# Altium schematic symbol library Library.SchLib: 31 symbols
Pins are listed as number, name and electrical type; pins without a type are passive.

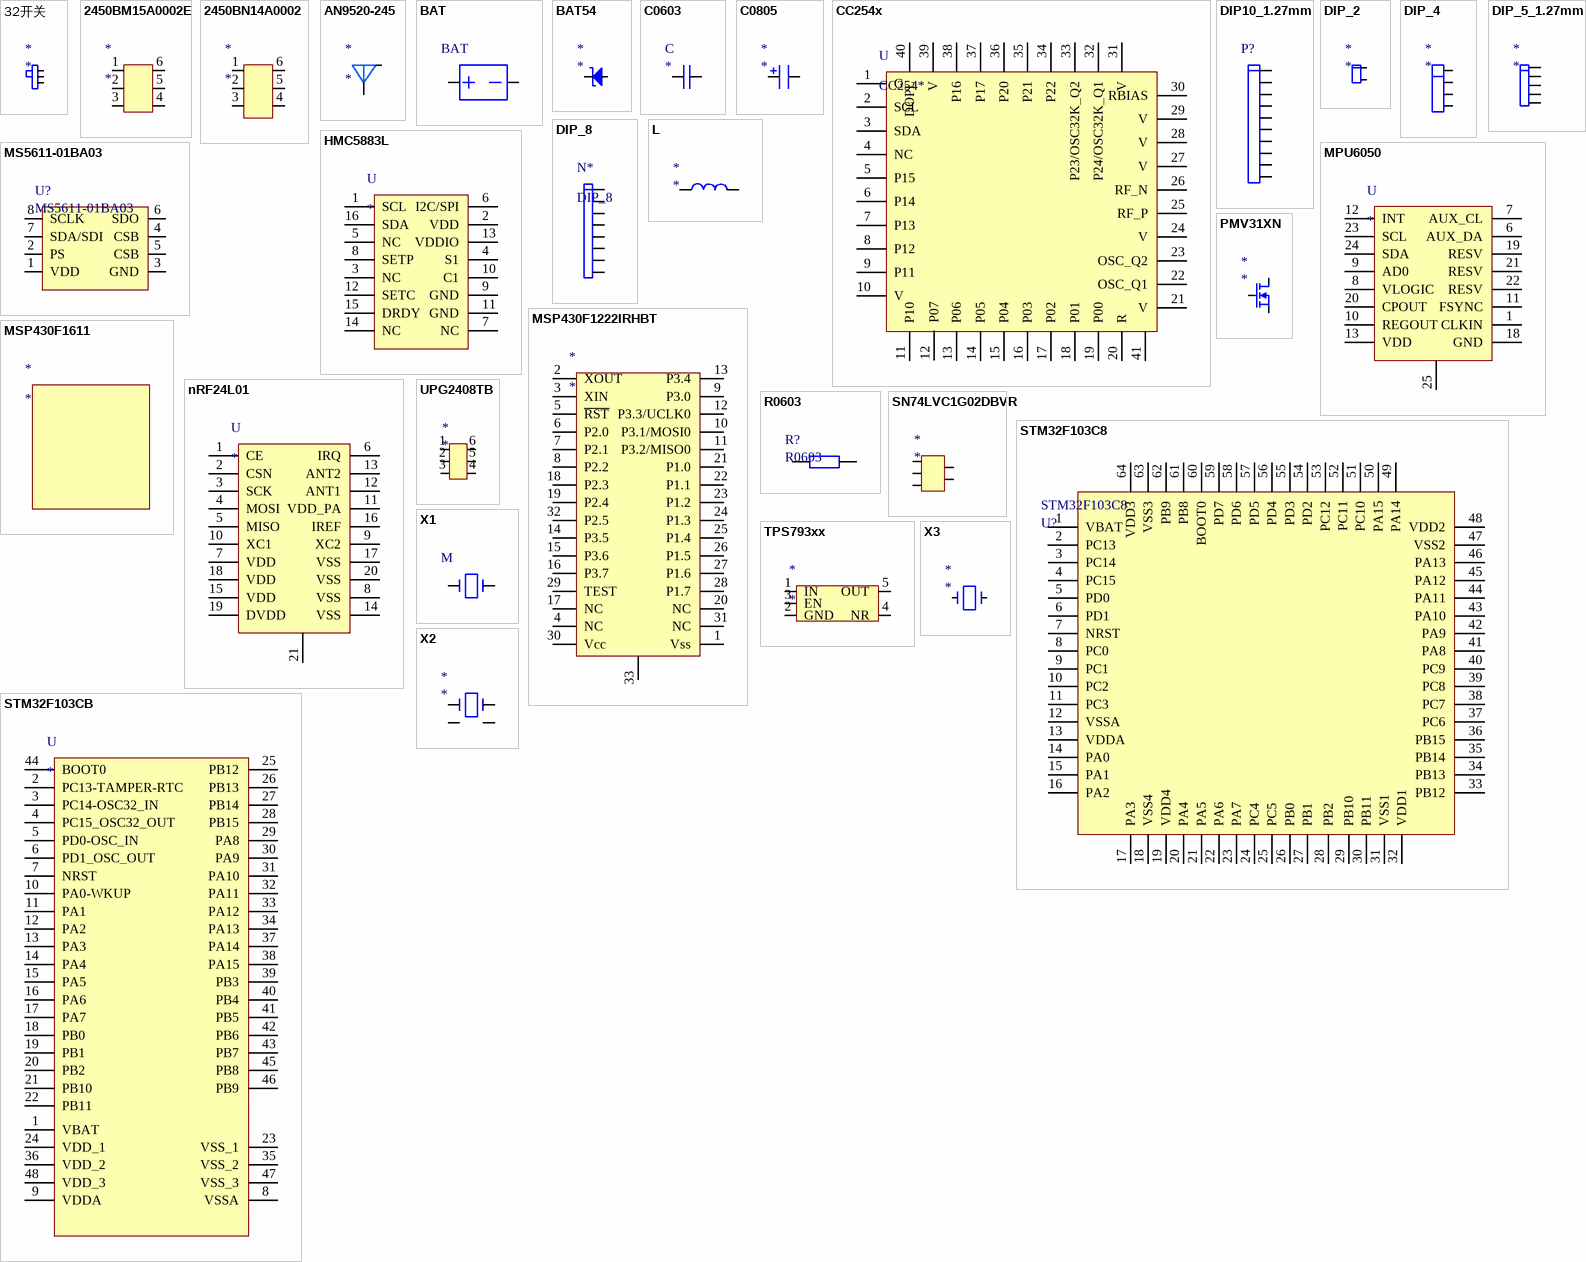
[diagram p0: symbols 32开关 to X3]

## 32开关
designator *
footprint 32k
pins: 1, 2, 3

## 2450BM15A0002E
designator *
CC2541
footprint 2450BM15A0002
pins: 1, 2, 3, 4, 5, 6

## 2450BN14A0002
designator *
nRF24L01
footprint 2450BM14A0002 (Chip Array, Flat, 6-Leads, Pitch 0.50mm,  Body 1.60x0.80mm,  IPC Medium Density)
pins: 1, 2, 3, 4, 5, 6

## AN9520-245
designator *
antenna
footprint AN9520-245 (Chip Capacitor, 2-Leads, Body 9.50x2.10mm, IPC Medium Density)
pins: 1, 2

## BAT
designator BAT  (value not drawn)
footprint XH254
pins: 1, 2

## BAT54
designator *
footprint BAT54 (SOT23, 3-Leads, Body 2.95x2.48mm, Pitch 0.95mm, IPC Medium Density)
pins: 1, 3

## C0603
designator C
footprint 0603
pins: 1, 2

## C0805
designator *
footprint 0805
pins: 1, 2

## CC254x
designator U, comment CC254*
footprint CC254x (QFN, 40-Leads, Body 6.00x6.00mm, Pitch 0.50mm, Thermal Pad 4.82x4.82mm, IPC Medium Density)
pins: 1 G, 2 SCL, 3 SDA, 4 NC, 5 P15, 6 P14, 7 P13, 8 P12, 9 P11, 10 V, 11 P10, 12 P07, 13 P06, 14 P05, 15 P04, 16 P03, 17 P02, 18 P01, 19 P00, 20 R, 21 V, 22 OSC_Q1, 23 OSC_Q2, 24 V, 25 RF_P, 26 RF_N, 27 V, 28 V, 29 V, 30 RBIAS, 31 V, 32 P24/OSC32K_Q1, 33 P23/OSC32K_Q2, 34 P22, 35 P21, 36 P20, 37 P17, 38 P16, 39 V, 40 DOPL, 41

## DIP10_1.27mm
designator P?  (value not drawn)
footprint DIP10_1.27mm
pins: 1, 2, 3, 4, 5, 6, 7, 8, 9, 10

## DIP_2
designator *
footprint DIP_2
pins: 1, 2

## DIP_4
designator *
footprint DIP_4
pins: 1, 2, 3, 4

## DIP_5_1.27mm
designator *
footprint DIP_5_1.27mm
pins: 1, 2, 3, 4, 5

## DIP_8
designator N*
pins: 1, 2, 3, 4, 5, 6, 7, 8

## HMC5883L
designator U
footprint HMC5883L
pins: 1 SCL, 2 VDD, 3 NC, 4 S1, 5 NC, 6 I2C/SPI, 7 NC, 8 SETP, 9 GND, 10 C1, 11 GND, 12 SETC, 13 VDDIO, 14 NC, 15 DRDY, 16 SDA

## L
designator *
pins: 1, 2

## MPU6050
designator U
footprint MPU6050
pins: 1 CLKIN, 6 AUX_DA, 7 AUX_CL, 8 VLOGIC, 9 AD0, 10 REGOUT, 11 FSYNC, 12 INT, 13 VDD, 18 GND, 19 RESV, 20 CPOUT, 21 RESV, 22 RESV, 23 SCL, 24 SDA, 25

## MS5611-01BA03
designator U?
footprint MS5611-01BA03
pins: 1 VDD, 2 PS, 3 GND, 4 CSB, 5 CSB, 6 SDO, 7 SDA/SDI, 8 SCLK

## MSP430F1222IRHBT
designator *
footprint QFN-32
pins: 1 Vss, 2 XOUT, 3 XIN, 4 NC, 5 ~{RST}, 6 P2.0, 7 P2.1, 8 P2.2, 9 P3.0, 10 P3.1/MOSI0, 11 P3.2/MISO0, 12 P3.3/UCLK0, 13 P3.4, 14 P3.5, 15 P3.6, 16 P3.7, 17 NC, 18 P2.3, 19 P2.4, 20 NC, 21 P1.0, 22 P1.1, 23 P1.2, 24 P1.3, 25 P1.4, 26 P1.5, 27 P1.6, 28 P1.7, 29 TEST, 30 Vcc, 31 NC, 32 P2.5, 33

## MSP430F1611
designator *
footprint S-PQFP-G64\TSQFP-64 (TSQFP, 64-Leads, Body 10.00x10.00mm, Pitch 0.50mm, IPC Medium Density)

## nRF24L01
designator U
footprint nRF24L01
pins: 1 CE, 2 CSN, 3 SCK, 4 MOSI, 5 MISO, 6 IRQ, 7 VDD, 8 VSS, 9 XC2, 10 XC1, 11 VDD_PA, 12 ANT1, 13 ANT2, 14 VSS, 15 VDD, 16 IREF, 17 VSS, 18 VDD, 19 DVDD, 20 VSS, 21

## PMV31XN
designator *
footprint SOT23-TO236AB (SOT23, 3-Leads, Body 2.90x2.30mm, Pitch 0.95mm, IPC Medium Density)
pins: 1, 2, 3

## R0603
designator R?
footprint 0603
pins: 1, 2

## SN74LVC1G02DBVR
designator *
footprint SN74LVC1G02DBVR (SOT23, 5-Leads, Body 2.90x2.80mm, Pitch 0.95mm, IPC Medium Density)
pins: 1 IN, 2 IN, 3 GND, 4 VCC, 5 OUT

## STM32F103C8
designator STM32F103C8, comment U?
footprint LQFP-64\PQFP-64
pins: 1 VBAT, 2 PC13, 3 PC14, 4 PC15, 5 PD0, 6 PD1, 7 NRST, 8 PC0, 9 PC1, 10 PC2, 11 PC3, 12 VSSA, 13 VDDA, 14 PA0, 15 PA1, 16 PA2, 17 PA3, 18 VSS4, 19 VDD4, 20 PA4, 21 PA5, 22 PA6, 23 PA7, 24 PC4, 25 PC5, 26 PB0, 27 PB1, 28 PB2, 29 PB10, 30 PB11, 31 VSS1, 32 VDD1, 33 PB12, 34 PB13, 35 PB14, 36 PB15, 37 PC6, 38 PC7, 39 PC8, 40 PC9, 41 PA8, 42 PA9, 43 PA10, 44 PA11, 45 PA12, 46 PA13, 47 VSS2, 48 VDD2, 49 PA14, 50 PA15, 51 PC10, 52 PC11, 53 PC12, 54 PD2, 55 PD3, 56 PD4, 57 PD5, 58 PD6, 59 PD7, 60 BOOT0, 61 PB8, 62 PB9, 63 VSS3, 64 VDD3

## STM32F103CB
designator U
footprint LQFP48 (TSQFP, 48-Leads, Body 7.00x7.00mm, Pitch 0.50mm, IPC Medium Density)
pins: 1 VBAT, 2 PC13-TAMPER-RTC, 3 PC14-OSC32_IN, 4 PC15_OSC32_OUT, 5 PD0-OSC_IN, 6 PD1_OSC_OUT, 7 NRST, 8 VSSA, 9 VDDA, 10 PA0-WKUP, 11 PA1, 12 PA2, 13 PA3, 14 PA4, 15 PA5, 16 PA6, 17 PA7, 18 PB0, 19 PB1, 20 PB2, 21 PB10, 22 PB11, 23 VSS_1, 24 VDD_1, 25 PB12, 26 PB13, 27 PB14, 28 PB15, 29 PA8, 30 PA9, 31 PA10, 32 PA11, 33 PA12, 34 PA13, 35 VSS_2, 36 VDD_2, 37 PA14, 38 PA15, 39 PB3, 40 PB4, 41 PB5, 42 PB6, 43 PB7, 44 BOOT0, 45 PB8, 46 PB9, 47 VSS_3, 48 VDD_3

## TPS793xx
designator *
footprint TPS793xx (SOT23, 6-Leads, Body 2.90x2.80mm, Pitch 0.95mm, IPC Medium Density)
pins: 1 IN, 2 GND, 3 EN, 4 NR, 5 OUT

## UPG2408TB
designator *
footprint UPF2408TB
pins: 1 RF1, 2 GND, 3 RF2, 4 V2, 5 RFC, 6 V1

## X1
designator M  (value not drawn)
footprint X1
pins: 1, 2

## X2
designator *
3225
footprint 3225
pins: 1, 2, 3, 4

## X3
designator *
3215
footprint 3215
pins: 1, 2